# EAGLE library part M3SWA-2-50DR (library rf-jqi)
RF Switch, TTL control, 10-15 ns rise time
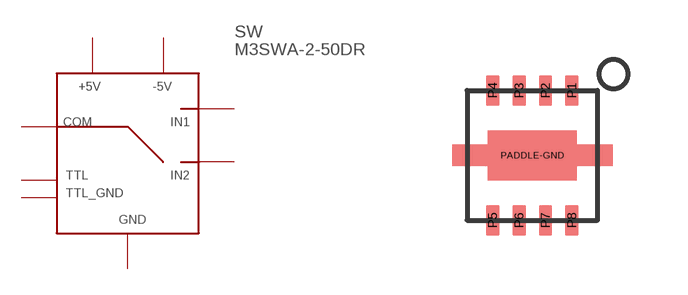
[diagram p7: symbol with the pads of DL805; footprint DL805]

Designator prefix SW

## M3SWA-2-50DR  [DL805]
P1  IN1
P2  TTL
P3  TTL_GND
P4  IN2
P5  V+
P6  COM
P7  V-
P8  GND
PADDLE-GND  GND

## Footprint DL805 (pad centres in mm)
smd 0.33 x 0.762: P1 0.991,1.626; P2 0.33,1.626; P3 -0.33,1.626; P4 -0.991,1.626; P5 -0.991,-1.626; P6 -0.33,-1.626; P7 0.33,-1.626; P8 0.991,-1.626
smd 1.27 x 0.635: PADDLE-GND 0,0